# EAGLE library part SFW6R-3STE1LF (library FCI-tkr)
FFC/FPC CONNECTOR, RECEPTACLE, 6POS 1ROW
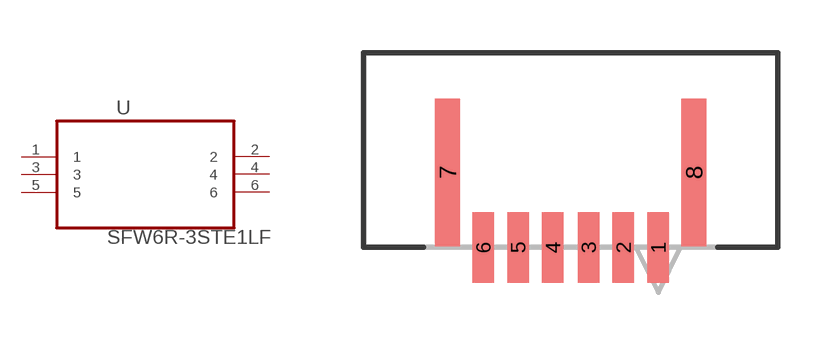
[diagram p76: symbol with the pads of FCI_SFW6R-3STE1LF; footprint FCI_SFW6R-3STE1LF]

Designator prefix U

## SFW6R-3STE1LF (MPN: SFW6R-3STE1LF; OC_FARNELL: 1835600; OC_NEWARK: 62K5642; PACKAGE: CONNECTOR-6POS; SUPPLIER: FCI)  [FCI_SFW6R-3STE1LF]
1  1  pas
2  2  pas
3  3  pas
4  4  pas
5  5  pas
6  6  pas

## Footprint FCI_SFW6R-3STE1LF (pad centres in mm)
smd 0.61 x 2.007: 1 2.489,2.743; 2 1.499,2.743; 3 0.508,2.743; 4 -0.508,2.743; 5 -1.499,2.743; 6 -2.489,2.743
smd 0.711 x 4.191: 7 -3.505,4.877; 8 3.505,4.877